# EAGLE library part AFRO_20A_ESC (library PowerComponents)
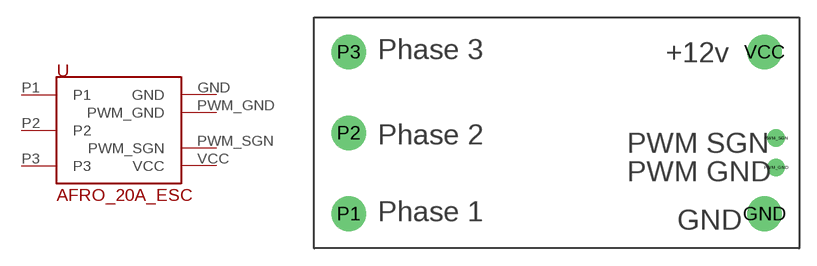
[diagram p3: symbol with the pads of AFRO_20A_ESC; footprint AFRO_20A_ESC]

Designator prefix -

## AFRO_20A_ESC  [AFRO_20A_ESC]
GND  GND
P1  P1
P2  P2
P3  P3
PWM_GND  PWM_GND
PWM_SGN  PWM_SGN
VCC  VCC

## Footprint AFRO_20A_ESC (pad centres in mm)
drill 2: GND 18,-7; P1 -18,-7; P2 -18,0; P3 -18,7; VCC 18,7
drill 1: PWM_GND 19,-3; PWM_SGN 19,-0.46